# Altium schematic symbol library SJ1-3533NG.SchLib: 1 symbol
Pins are listed as number, name and electrical type; pins without a type are passive.

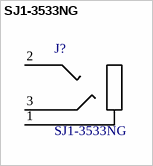
[diagram p0: symbol SJ1-3533NG]

## SJ1-3533NG
designator J?
SJ1 Series 3.5 mm 12 V Right Angle Through Hole Isolated Stereo Audio Jack; MF: CUI; Availability: Good; Package: None; MP: SJ1-3533NG; Price: 0.77 USD; Value: *
footprint SJ1-3533NG
pins: 1 S, 2 T, 3 R